# Altium schematic symbol library avx-connector.SchLib: 1 symbol
Pins are listed as number, name and electrical type; pins without a type are passive.

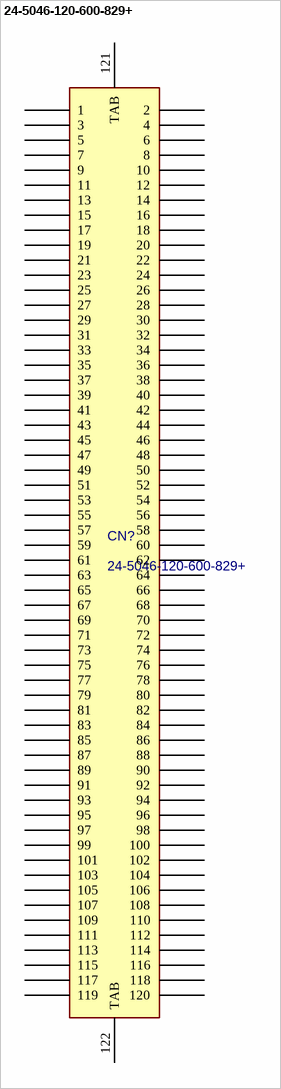
[diagram p0: symbol 24-5046-120-600-829+]

## 24-5046-120-600-829+
designator CN?
Board to Board Connector F 120POS 0.5mm SMD; Value: 24-5046-120-600-829+; PN: *; Package: *; ExtraInfo: *
footprint 24-5046-120-600-829+ (Board to Board Connector F 120POS 0.5mm SMD)
pins: 1, 2, 3, 4, 5, 6, 7, 8, 8 16, 9, 10, 11, 12, 13, 14, 15, 17, 18, 19, 20, 21, 22, 23, 24, 25, 26, 27, 28, 29, 30, 31, 32, 33, 34, 35, 36, 37, 38, 39, 40, 41, 42, 43, 44, 45, 46, 47, 48, 49, 50, 51, 52, 53, 54, 54 118, 55, 56, 56 120, 57, 58, 59, 60, 61, 62, 63, 64, 65, 66, 67, 68, 69, 70, 71, 72, 73, 74, 75, 76, 77, 78, 79, 80, 81, 82, 83, 84, 85, 86, 87, 88, 89, 90, 91, 92, 93, 94, 95, 96, 97, 98, 99, 100, 101, 102, 103, 104, 105, 106, 107, 108, 109, 110, 111, 112, 113, 114, 115, 116, 117, 119, 121 TAB, 122 TAB